# Altium footprint library 贴片元器件.PCBLIB: 208 footprints (part 1 of 13)
Each footprint in its own frame and in the unit in brackets; x right, y up, seen from the top. Pads: shape width x height; smd on the part's side, far side on the other; paste and mask are expansions set on the pad; w line width, h text height; cw(c..) or ccw(c..) is an arc to the next point about the centre after c.
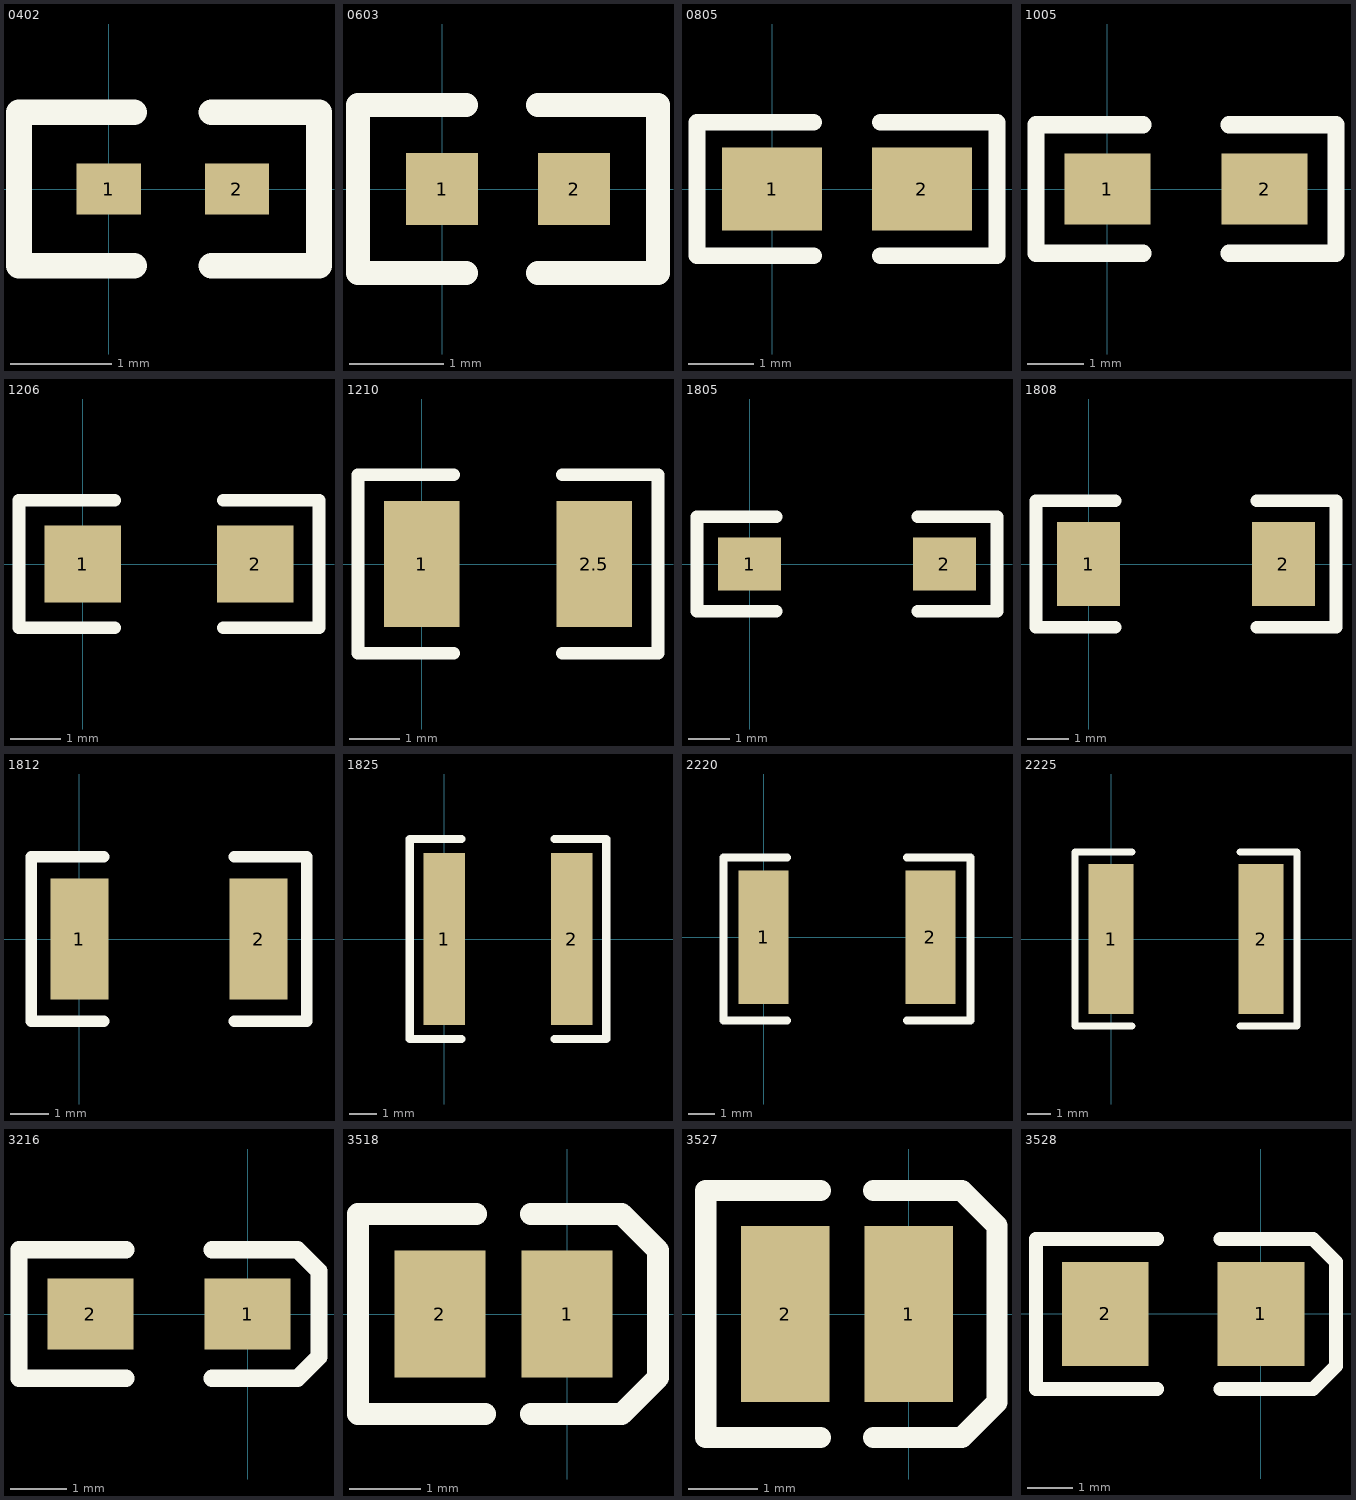
[diagram p0: the footprints below, top view; thin cyan lines are the x and y axes]

## 0402 [mil]
pads (2):
  rect 25x20 smd: 1(0,0) 2(50,0)
TopOverlay:
  lines w10: 10,-30 -35,-30 -35,30 10,30 ; 40,-30 82,-30 82,30 40,30

## 0603 [mil]
pads (2):
  rect 30x30 smd: 1(0,0) 2(55,0)
TopOverlay:
  lines w10: 10,-35 -35,-35 -35,35 10,35 ; 40,-35 90,-35 90,35 40,35

## 0805 [mil]
pads (2):
  rect 60x50 smd: 1(0,0) 2(90,0)
TopOverlay:
  lines w10: 25,-40 -45,-40 -45,40 25,40 ; 65,-40 135,-40 135,40 65,40

## 1005 [mil]
pads (2):
  rect 60x50 smd: 1(0,0) 2(110,0)
TopOverlay:
  lines w12: 25,-45 -50,-45 -50,45 25,45 ; 85,-45 160,-45 160,45 85,45

## 1206 [mil]
pads (2):
  rect 60x60 smd: 1(0,0) 2(135,0)
TopOverlay:
  lines w10: 25,-50 -50,-50 -50,50 25,50 ; 110,-50 185,-50 185,50 110,50

## 1210 [mm]
pads (2):
  rect 1.5x2.5 smd: 1(0,0) 2.5(3.429,0)
TopOverlay:
  lines w0.254: 0.635,-1.778 -1.27,-1.778 -1.27,1.778 0.635,1.778 ; 2.794,-1.778 4.699,-1.778 4.699,1.778 2.794,1.778

## 1805 [mil]
pads (2):
  rect 60x50 smd: 1(0,0) 2(185,0)
TopOverlay:
  lines w12: 25,-45 -50,-45 -50,45 25,45 ; 160,-45 235,-45 235,45 160,45

## 1808 [mil]
pads (2):
  rect 60x80 smd: 1(0,0) 2(185,0)
TopOverlay:
  lines w12: 25,-60 -50,-60 -50,60 25,60 ; 160,-60 235,-60 235,60 160,60

## 1812 [mil]
pads (2):
  rect 60x125 smd: 1(0,0) 2(185,0)
TopOverlay:
  lines w12: 25,-85 -50,-85 -50,85 25,85 ; 160,-85 235,-85 235,85 160,85

## 1825 [mil]
pads (2):
  rect 60x250 smd: 1(0,0) 2(185,0)
TopOverlay:
  lines w12: 25,-145 -50,-145 -50,145 25,145 ; 160,-145 235,-145 235,145 160,145

## 2220 [mm]
pads (2):
  rect 1.905x5.08 smd: 1(0,0) 2(6.35,0)
TopOverlay:
  lines w0.305: 0.889,-3.175 -1.524,-3.175 -1.524,3.048 0.889,3.048 ; 5.461,-3.175 7.874,-3.175 7.874,3.048 5.461,3.048

## 2225 [mm]
pads (2):
  rect 1.905x6.35 smd: 1(0,0) 2(6.35,0)
TopOverlay:
  lines w0.305: 0.889,-3.683 -1.524,-3.683 -1.524,3.683 0.889,3.683 ; 5.461,-3.683 7.874,-3.683 7.874,3.683 5.461,3.683

## 3216 [mil]
pads (2):
  rect 60x50 smd: 1(0,0) 2(-110,0)
TopOverlay:
  lines w12: -85,-45 -160,-45 -160,45 -85,45 ; -25,-45 35,-45 50,-30 50,30 35,45 -25,45

## 3518 [mil]
pads (2):
  rect 50x70 smd: 1(0,0) 2(-70,0)
TopOverlay:
  lines w12: -50,55 -115,55 -115,-55 -45,-55 ; -20,-55 30,-55 50,-35 50,35 30,55 -20,55

## 3527 [mil]
pads (2):
  rect 50x100 smd: 1(0,0) 2(-70,0)
TopOverlay:
  lines w12: -50,-70 -115,-70 -115,70 -50,70 ; -20,-70 30,-70 50,-50 50,50 30,70 -20,70

## 3528 [mil]
pads (2):
  rect 75x90 smd: 1(0,0) 2(-135,0)
TopOverlay:
  lines w12: -90,-65 -195,-65 -195,65 -90,65 ; -35,-65 45,-65 65,-45 65,45 45,65 -35,65